# Altium schematic symbol library atmega32u4.SchLib: 1 symbol
Pins are listed as number, name and electrical type; pins without a type are passive.

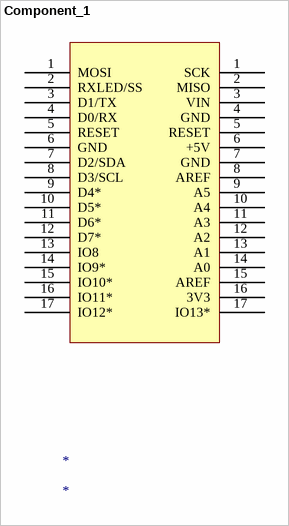
[diagram p0: symbol Component_1]

## Component_1
designator *
footprint ATMEGA32U4 (Footprint not found)
pins: 1 SCK, 1 MOSI, 2 MISO, 2 RXLED/SS, 3 VIN, 3 D1/TX, 4 GND, 4 D0/RX, 5 RESET, 5 RESET, 6 +5V, 6 GND, 7 GND, 7 D2/SDA, 8 AREF, 8 D3/SCL, 9 A5, 9 D4*, 10 A4, 10 D5*, 11 A3, 11 D6*, 12 A2, 12 D7*, 13 A1, 13 IO8, 14 A0, 14 IO9*, 15 AREF, 15 IO10*, 16 3V3, 16 IO11*, 17 IO13*, 17 IO12*